# Altium schematic symbol library PPTC191LFBN-RC.SCHLIB: 1 symbol
Pins are listed as number, name and electrical type; pins without a type are passive.

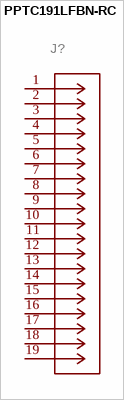
[diagram p0: symbol PPTC191LFBN-RC]

## PPTC191LFBN-RC
designator J?
MFR_NAME: Sullins; GateName_1: A; SymbolName_1: CONN19_PPTC191LFBN-RC; DeviceSetName: PPTC191LFBN-RC; LibraryName: PPTC191LFBN-RC; Package: CONN19_PPTC191LFBN-RC_SUL; COPYRIGHT: Copyright (C) 2023 Ultra Librarian. All rights reserved.; MANUFACTURER_PART_NUMBER: PPTC191LFBN-RC; TYPE: Headers, Receptacles, Female Sockets
footprint CONN19_PPTC191LFBN-RC_SUL
pins: 1, 2, 3, 4, 5, 6, 7, 8, 9, 10, 11, 12, 13, 14, 15, 16, 17, 18, 19